# EAGLE library part TS30012 (library thanics_robotics)
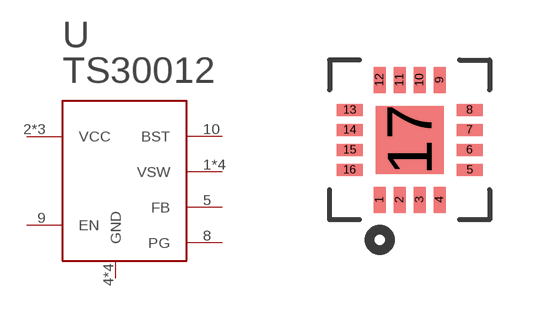
[diagram p26: symbol with the pads of 16-VQFN; footprint 16-VQFN]

Designator prefix -

## TS30012  [16-VQFN]
1  VSW
2  VCC
3  VCC
4  GND
5  FB
8  PG
9  EN
10  BST
11  VCC
12  VSW
13  VSW
14  GND
15  GND
16  VSW
17  GND

## Footprint 16-VQFN (pad centres in mm)
smd 0.3 x 0.65: 1 -0.75,-1.27; 2 -0.25,-1.27; 3 0.25,-1.27; 4 0.75,-1.27; 9 0.75,1.73; 10 0.25,1.73; 11 -0.25,1.73; 12 -0.75,1.73
smd 0.65 x 0.3: 5 1.5,-0.52; 6 1.5,-0.02; 7 1.5,0.48; 8 1.5,0.98; 13 -1.5,0.98; 14 -1.5,0.48; 15 -1.5,-0.02; 16 -1.5,-0.52
smd 1.7 x 1.7: 17 0,0.23